# Altium integrated library Renesas Memory.IntLib: 284 symbols (part 8 of 9)
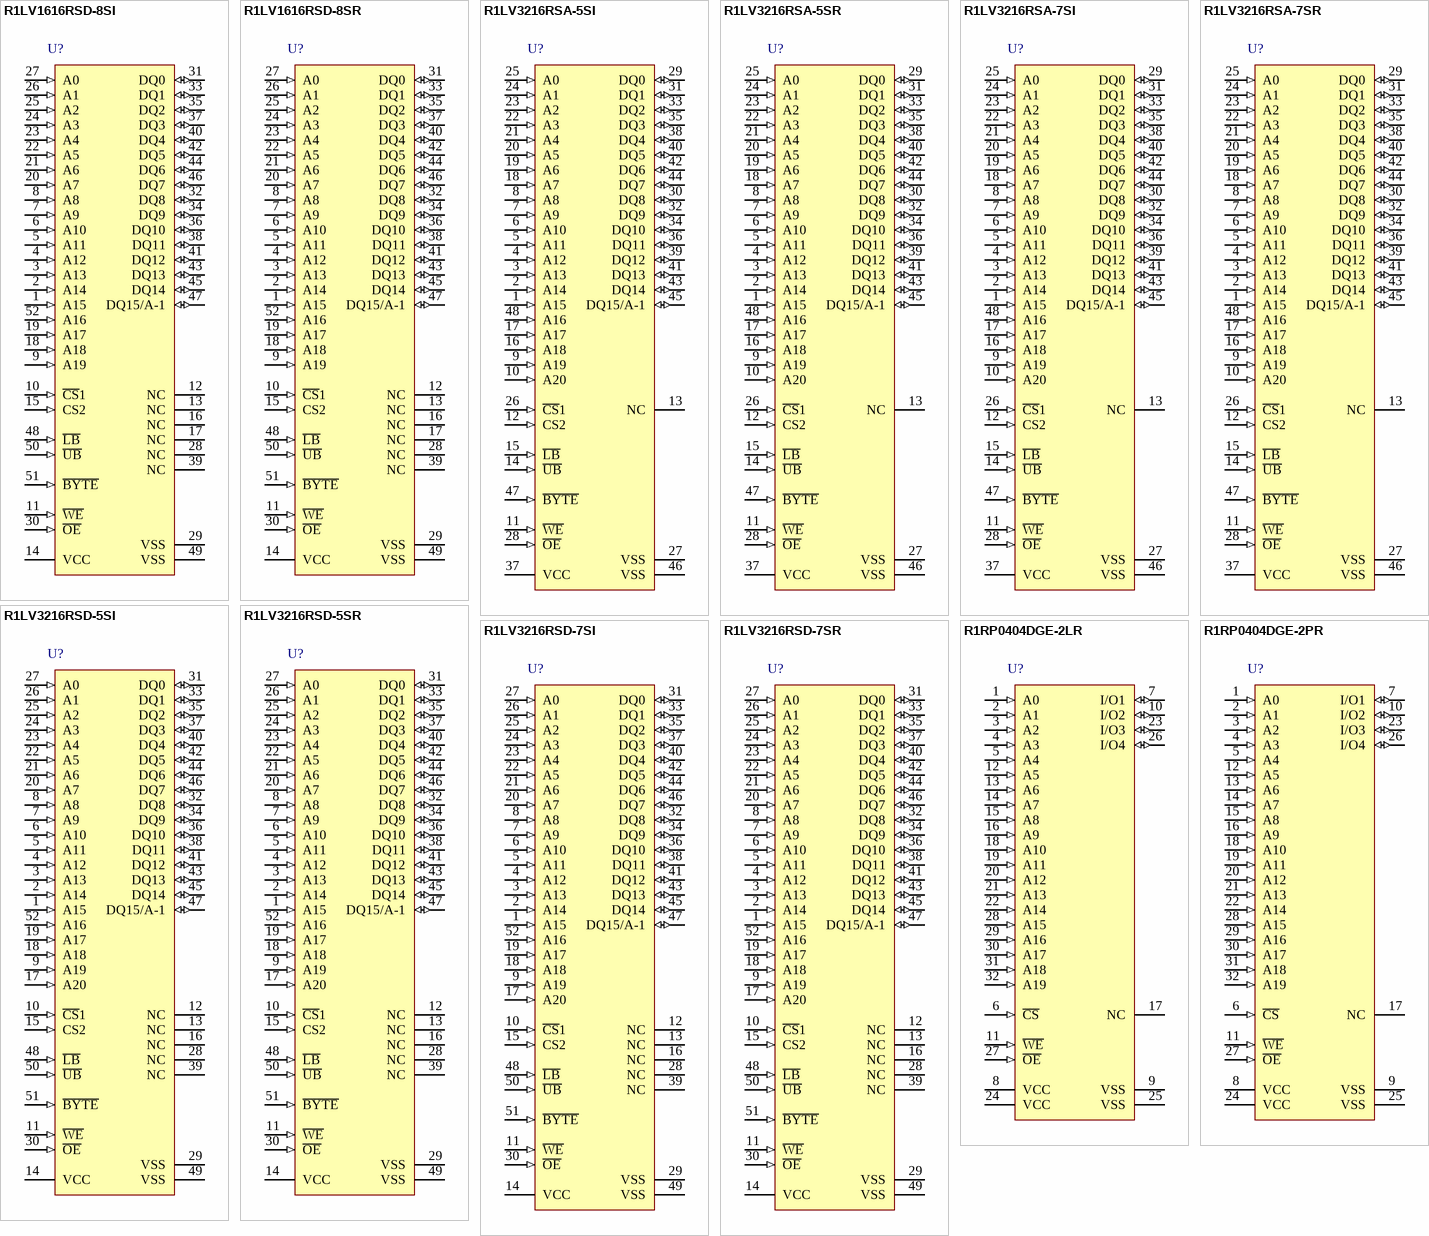
[diagram p22: symbols R1LV1616RSD-8SI to R1RP0404DGE-2PR]

## R1RP0404DGE-2PR
designator U?
R1RP0404D Series 4M High Speed SRAM (1-Mword × 4-bit); Published: 3-Mar-2010; DatasheetVersion: Rev.1.00, Mar-2004; PackageVersion: Sep-2005; PackageReference: PRSJ0032DA-A; Publisher: Altium Limited; PackageDescription: 32-Pin Small Outline J-Lead, 10.16 mm Body Width, 1.27 mm Pitch; Code_JEITA: P-SOJ32-10.16x20.85-1.27; ComponentLink1Description: Manufacturer Link; ComponentLink1URL: http://sg.renesas.com/products/memory/memory_category_landing.jsp; ComponentLink2Description: Datasheet; ComponentLink2URL: http://documentation.renesas.com/eng/products/memory/rej03c0116_r1rp0404d.pdf; ComponentLink3Description: Packaging Specification; ComponentLink3URL: http://sg.renesas.com/media/products/common_info/package/pdf/ic/code/prsj0032da_a.pdf
footprint PRSJ0032DA-A_N (SOJ, 32-Leads, Body 21 x 10.16 mm, Pitch 1.27mm, IPC Medium Density)
footprint PRSJ0032DA-A_L (SOJ, 32-Leads, Body 21 x 10.16 mm, Pitch 1.27mm, IPC High Density)
footprint PRSJ0032DA-A_M (SOJ, 32-Leads, Body 21 x 10.16 mm, Pitch 1.27mm, IPC Low Density)
pins: 1 A0 (in), 2 A1 (in), 3 A2 (in), 4 A3 (in), 5 A4 (in), 6 ~{CS} (in), 7 I/O1 (io), 8 VCC (power), 9 VSS (power), 10 I/O2 (io), 11 ~{WE} (in), 12 A5 (in), 13 A6 (in), 14 A7 (in), 15 A8 (in), 16 A9 (in), 17 NC, 18 A10 (in), 19 A11 (in), 20 A12 (in), 21 A13 (in), 22 A14 (in), 23 I/O3 (io), 24 VCC (power), 25 VSS (power), 26 I/O4 (io), 27 ~{OE} (in), 28 A15 (in), 29 A16 (in), 30 A17 (in), 31 A18 (in), 32 A19 (in)

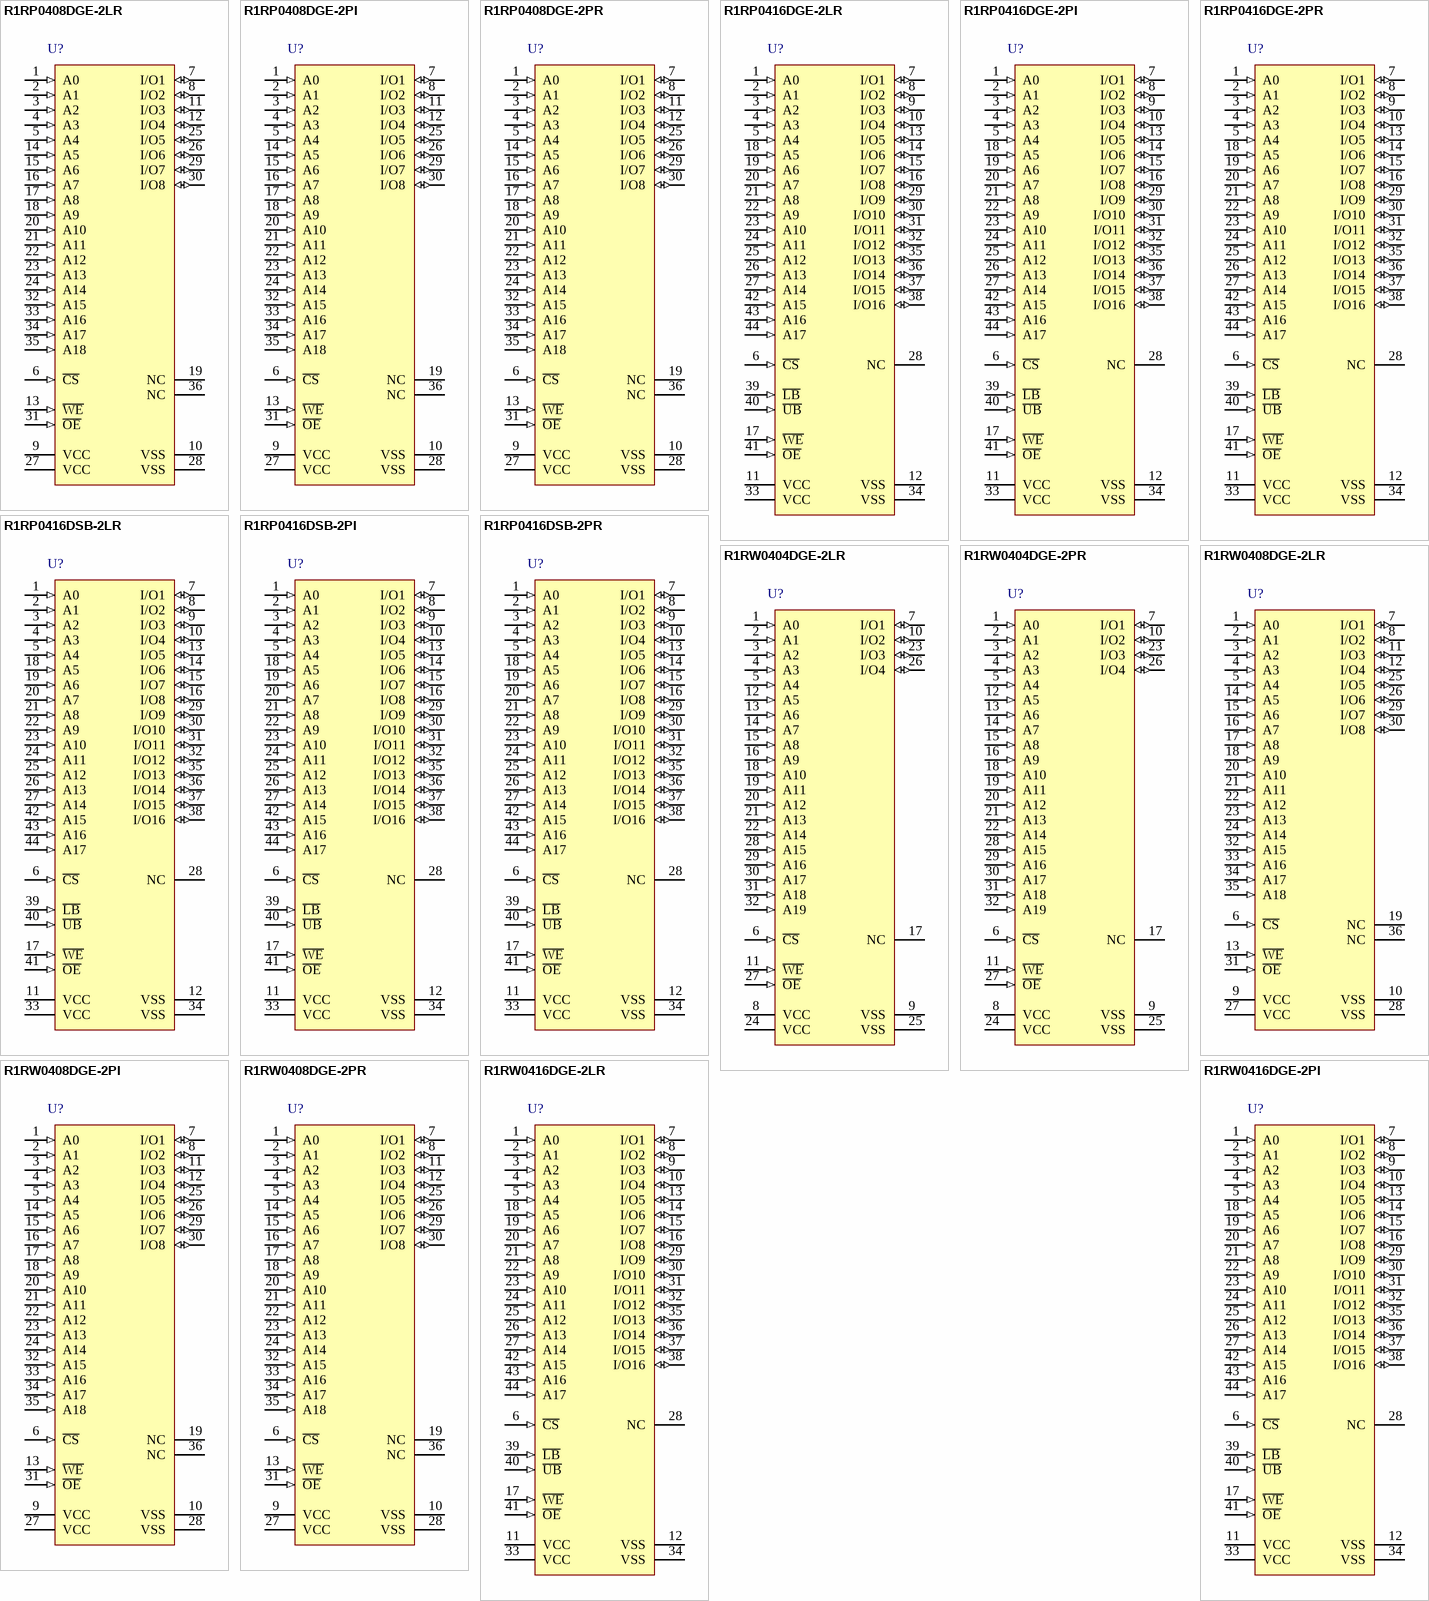
[diagram p13: symbols R1RP0408DGE-2LR to R1RW0416DGE-2PI]

## R1RP0408DGE-2LR
designator U?
R1RP0408D Series 4M High Speed SRAM (512-kword × 8-bit); Published: 3-Mar-2010; DatasheetVersion: Rev.2.00, Dec-2008; PackageVersion: Sep-2005; PackageReference: PRSJ0036DA-A; Publisher: Altium Limited; PackageDescription: 36-Pin Small Outline J-Lead, 10.16 mm Body Width, 1.27 mm Pitch; Code_JEITA: P-SOJ36-10.16x23.39-1.27; ComponentLink1Description: Manufacturer Link; ComponentLink1URL: http://sg.renesas.com/products/memory/memory_category_landing.jsp; ComponentLink2Description: Datasheet; ComponentLink2URL: http://documentation.renesas.com/eng/products/memory/rej03c0112_r1rp0408d.pdf; ComponentLink3Description: Packaging Specification; ComponentLink3URL: http://sg.renesas.com/media/products/common_info/package/pdf/ic/code/prsj0036da_a.pdf
footprint PRSJ0036DA-A_N (SOJ, 36-Leads, Body 23.5 x 10.16 mm, Pitch 1.27mm, IPC Medium Density)
footprint PRSJ0036DA-A_L (SOJ, 36-Leads, Body 23.5 x 10.16 mm, Pitch 1.27mm, IPC High Density)
footprint PRSJ0036DA-A_M (SOJ, 36-Leads, Body 23.5 x 10.16 mm, Pitch 1.27mm, IPC Low Density)
pins: 1 A0 (in), 2 A1 (in), 3 A2 (in), 4 A3 (in), 5 A4 (in), 6 ~{CS} (in), 7 I/O1 (io), 8 I/O2 (io), 9 VCC (power), 10 VSS (power), 11 I/O3 (io), 12 I/O4 (io), 13 ~{WE} (in), 14 A5 (in), 15 A6 (in), 16 A7 (in), 17 A8 (in), 18 A9 (in), 19 NC, 20 A10 (in), 21 A11 (in), 22 A12 (in), 23 A13 (in), 24 A14 (in), 25 I/O5 (io), 26 I/O6 (io), 27 VCC (power), 28 VSS (power), 29 I/O7 (io), 30 I/O8 (io), 31 ~{OE} (in), 32 A15 (in), 33 A16 (in), 34 A17 (in), 35 A18 (in), 36 NC

## R1RP0408DGE-2PI
designator U?
R1RP0408DI Series 4M High Speed SRAM (512-kword × 8-bit) Wide Temperature Range Version; Published: 3-Mar-2010; DatasheetVersion: Rev.1.00, Mar-2004; PackageVersion: Sep-2005; PackageReference: PRSJ0036DA-A; Publisher: Altium Limited; PackageDescription: 36-Pin Small Outline J-Lead, 10.16 mm Body Width, 1.27 mm Pitch; Code_JEITA: P-SOJ36-10.16x23.39-1.27; ComponentLink1Description: Manufacturer Link; ComponentLink1URL: http://sg.renesas.com/products/memory/memory_category_landing.jsp; ComponentLink2Description: Datasheet; ComponentLink2URL: http://documentation.renesas.com/eng/products/memory/rej03c0114_r1rp0408di.pdf; ComponentLink3Description: Packaging Specification; ComponentLink3URL: http://sg.renesas.com/media/products/common_info/package/pdf/ic/code/prsj0036da_a.pdf
footprint PRSJ0036DA-A_N (SOJ, 36-Leads, Body 23.5 x 10.16 mm, Pitch 1.27mm, IPC Medium Density)
footprint PRSJ0036DA-A_L (SOJ, 36-Leads, Body 23.5 x 10.16 mm, Pitch 1.27mm, IPC High Density)
footprint PRSJ0036DA-A_M (SOJ, 36-Leads, Body 23.5 x 10.16 mm, Pitch 1.27mm, IPC Low Density)
pins: 1 A0 (in), 2 A1 (in), 3 A2 (in), 4 A3 (in), 5 A4 (in), 6 ~{CS} (in), 7 I/O1 (io), 8 I/O2 (io), 9 VCC (power), 10 VSS (power), 11 I/O3 (io), 12 I/O4 (io), 13 ~{WE} (in), 14 A5 (in), 15 A6 (in), 16 A7 (in), 17 A8 (in), 18 A9 (in), 19 NC, 20 A10 (in), 21 A11 (in), 22 A12 (in), 23 A13 (in), 24 A14 (in), 25 I/O5 (io), 26 I/O6 (io), 27 VCC (power), 28 VSS (power), 29 I/O7 (io), 30 I/O8 (io), 31 ~{OE} (in), 32 A15 (in), 33 A16 (in), 34 A17 (in), 35 A18 (in), 36 NC

## R1RP0408DGE-2PR
designator U?
R1RP0408D Series 4M High Speed SRAM (512-kword × 8-bit); Published: 3-Mar-2010; DatasheetVersion: Rev.2.00, Dec-2008; PackageVersion: Sep-2005; PackageReference: PRSJ0036DA-A; Publisher: Altium Limited; PackageDescription: 36-Pin Small Outline J-Lead, 10.16 mm Body Width, 1.27 mm Pitch; Code_JEITA: P-SOJ36-10.16x23.39-1.27; ComponentLink1Description: Manufacturer Link; ComponentLink1URL: http://sg.renesas.com/products/memory/memory_category_landing.jsp; ComponentLink2Description: Datasheet; ComponentLink2URL: http://documentation.renesas.com/eng/products/memory/rej03c0112_r1rp0408d.pdf; ComponentLink3Description: Packaging Specification; ComponentLink3URL: http://sg.renesas.com/media/products/common_info/package/pdf/ic/code/prsj0036da_a.pdf
footprint PRSJ0036DA-A_N (SOJ, 36-Leads, Body 23.5 x 10.16 mm, Pitch 1.27mm, IPC Medium Density)
footprint PRSJ0036DA-A_L (SOJ, 36-Leads, Body 23.5 x 10.16 mm, Pitch 1.27mm, IPC High Density)
footprint PRSJ0036DA-A_M (SOJ, 36-Leads, Body 23.5 x 10.16 mm, Pitch 1.27mm, IPC Low Density)
pins: 1 A0 (in), 2 A1 (in), 3 A2 (in), 4 A3 (in), 5 A4 (in), 6 ~{CS} (in), 7 I/O1 (io), 8 I/O2 (io), 9 VCC (power), 10 VSS (power), 11 I/O3 (io), 12 I/O4 (io), 13 ~{WE} (in), 14 A5 (in), 15 A6 (in), 16 A7 (in), 17 A8 (in), 18 A9 (in), 19 NC, 20 A10 (in), 21 A11 (in), 22 A12 (in), 23 A13 (in), 24 A14 (in), 25 I/O5 (io), 26 I/O6 (io), 27 VCC (power), 28 VSS (power), 29 I/O7 (io), 30 I/O8 (io), 31 ~{OE} (in), 32 A15 (in), 33 A16 (in), 34 A17 (in), 35 A18 (in), 36 NC

## R1RP0416DGE-2LR
designator U?
R1RP0416D Series 4M High Speed SRAM (256-kword × 16-bit); Published: 3-Mar-2010; DatasheetVersion: Rev.1.00, Mar-2004; PackageVersion: Sep-2005; PackageReference: PRSJ0044DA-A; Publisher: Altium Limited; PackageDescription: 44-Pin Small Outline J-Lead, 10.16 mm Body Width, 1.27 mm Pitch; Code_JEITA: P-SOJ44-10.16x28.47-1.27; ComponentLink1Description: Manufacturer Link; ComponentLink1URL: http://sg.renesas.com/products/memory/memory_category_landing.jsp; ComponentLink2Description: Datasheet; ComponentLink2URL: http://documentation.renesas.com/eng/products/memory/rej03c0108_r1rp0416d.pdf; ComponentLink3Description: Packaging Specification; ComponentLink3URL: http://sg.renesas.com/media/products/common_info/package/pdf/ic/code/prsj0044da_a.pdf
footprint PRSJ0044DA-A_N (SOJ, 44-Leads, Body 28.6 x 10.16 mm, Pitch 1.27mm, IPC Medium Density)
footprint PRSJ0044DA-A_L (SOJ, 44-Leads, Body 28.6 x 10.16 mm, Pitch 1.27mm, IPC High Density)
footprint PRSJ0044DA-A_M (SOJ, 44-Leads, Body 28.6 x 10.16 mm, Pitch 1.27mm, IPC Low Density)
pins: 1 A0 (in), 2 A1 (in), 3 A2 (in), 4 A3 (in), 5 A4 (in), 6 ~{CS} (in), 7 I/O1 (io), 8 I/O2 (io), 9 I/O3 (io), 10 I/O4 (io), 11 VCC (power), 12 VSS (power), 13 I/O5 (io), 14 I/O6 (io), 15 I/O7 (io), 16 I/O8 (io), 17 ~{WE} (in), 18 A5 (in), 19 A6 (in), 20 A7 (in), 21 A8 (in), 22 A9 (in), 23 A10 (in), 24 A11 (in), 25 A12 (in), 26 A13 (in), 27 A14 (in), 28 NC, 29 I/O9 (io), 30 I/O10 (io), 31 I/O11 (io), 32 I/O12 (io), 33 VCC (power), 34 VSS (power), 35 I/O13 (io), 36 I/O14 (io), 37 I/O15 (io), 38 I/O16 (io), 39 ~{LB} (in), 40 ~{UB} (in), 41 ~{OE} (in), 42 A15 (in), 43 A16 (in), 44 A17 (in)

## R1RP0416DGE-2PI
designator U?
R1RP0416DI Series 4M High Speed SRAM (256-kword × 16-bit) Wide Temperature Range Version; Published: 3-Mar-2010; DatasheetVersion: Rev.1.00, Mar-2004; PackageVersion: Sep-2005; PackageReference: PRSJ0044DA-A; Publisher: Altium Limited; PackageDescription: 44-Pin Small Outline J-Lead, 10.16 mm Body Width, 1.27 mm Pitch; Code_JEITA: P-SOJ44-10.16x28.47-1.27; ComponentLink1Description: Manufacturer Link; ComponentLink1URL: http://sg.renesas.com/products/memory/memory_category_landing.jsp; ComponentLink2Description: Datasheet; ComponentLink2URL: http://documentation.renesas.com/eng/products/memory/rej03c0110_r1rp0416di.pdf; ComponentLink3Description: Packaging Specification; ComponentLink3URL: http://sg.renesas.com/media/products/common_info/package/pdf/ic/code/prsj0044da_a.pdf
footprint PRSJ0044DA-A_N (SOJ, 44-Leads, Body 28.6 x 10.16 mm, Pitch 1.27mm, IPC Medium Density)
footprint PRSJ0044DA-A_L (SOJ, 44-Leads, Body 28.6 x 10.16 mm, Pitch 1.27mm, IPC High Density)
footprint PRSJ0044DA-A_M (SOJ, 44-Leads, Body 28.6 x 10.16 mm, Pitch 1.27mm, IPC Low Density)
pins: 1 A0 (in), 2 A1 (in), 3 A2 (in), 4 A3 (in), 5 A4 (in), 6 ~{CS} (in), 7 I/O1 (io), 8 I/O2 (io), 9 I/O3 (io), 10 I/O4 (io), 11 VCC (power), 12 VSS (power), 13 I/O5 (io), 14 I/O6 (io), 15 I/O7 (io), 16 I/O8 (io), 17 ~{WE} (in), 18 A5 (in), 19 A6 (in), 20 A7 (in), 21 A8 (in), 22 A9 (in), 23 A10 (in), 24 A11 (in), 25 A12 (in), 26 A13 (in), 27 A14 (in), 28 NC, 29 I/O9 (io), 30 I/O10 (io), 31 I/O11 (io), 32 I/O12 (io), 33 VCC (power), 34 VSS (power), 35 I/O13 (io), 36 I/O14 (io), 37 I/O15 (io), 38 I/O16 (io), 39 ~{LB} (in), 40 ~{UB} (in), 41 ~{OE} (in), 42 A15 (in), 43 A16 (in), 44 A17 (in)

## R1RP0416DGE-2PR
designator U?
R1RP0416D Series 4M High Speed SRAM (256-kword × 16-bit); Published: 3-Mar-2010; DatasheetVersion: Rev.1.00, Mar-2004; PackageVersion: Sep-2005; PackageReference: PRSJ0044DA-A; Publisher: Altium Limited; PackageDescription: 44-Pin Small Outline J-Lead, 10.16 mm Body Width, 1.27 mm Pitch; Code_JEITA: P-SOJ44-10.16x28.47-1.27; ComponentLink1Description: Manufacturer Link; ComponentLink1URL: http://sg.renesas.com/products/memory/memory_category_landing.jsp; ComponentLink2Description: Datasheet; ComponentLink2URL: http://documentation.renesas.com/eng/products/memory/rej03c0108_r1rp0416d.pdf; ComponentLink3Description: Packaging Specification; ComponentLink3URL: http://sg.renesas.com/media/products/common_info/package/pdf/ic/code/prsj0044da_a.pdf
footprint PRSJ0044DA-A_N (SOJ, 44-Leads, Body 28.6 x 10.16 mm, Pitch 1.27mm, IPC Medium Density)
footprint PRSJ0044DA-A_L (SOJ, 44-Leads, Body 28.6 x 10.16 mm, Pitch 1.27mm, IPC High Density)
footprint PRSJ0044DA-A_M (SOJ, 44-Leads, Body 28.6 x 10.16 mm, Pitch 1.27mm, IPC Low Density)
pins: 1 A0 (in), 2 A1 (in), 3 A2 (in), 4 A3 (in), 5 A4 (in), 6 ~{CS} (in), 7 I/O1 (io), 8 I/O2 (io), 9 I/O3 (io), 10 I/O4 (io), 11 VCC (power), 12 VSS (power), 13 I/O5 (io), 14 I/O6 (io), 15 I/O7 (io), 16 I/O8 (io), 17 ~{WE} (in), 18 A5 (in), 19 A6 (in), 20 A7 (in), 21 A8 (in), 22 A9 (in), 23 A10 (in), 24 A11 (in), 25 A12 (in), 26 A13 (in), 27 A14 (in), 28 NC, 29 I/O9 (io), 30 I/O10 (io), 31 I/O11 (io), 32 I/O12 (io), 33 VCC (power), 34 VSS (power), 35 I/O13 (io), 36 I/O14 (io), 37 I/O15 (io), 38 I/O16 (io), 39 ~{LB} (in), 40 ~{UB} (in), 41 ~{OE} (in), 42 A15 (in), 43 A16 (in), 44 A17 (in)

## R1RP0416DSB-2LR
designator U?
R1RP0416D Series 4M High Speed SRAM (256-kword × 16-bit); Published: 3-Mar-2010; DatasheetVersion: Rev.1.00, Mar-2004; PackageVersion: Sep-2005; PackageReference: PTSB0044GA-A; Publisher: Altium Limited; PackageDescription: 44-Pin Plastic Small Outline Package 0.8 mm Pitch; Code_JEITA: P-TSOP(2)44-10.16x18.41-0.80; ComponentLink1Description: Manufacturer Link; ComponentLink1URL: http://sg.renesas.com/products/memory/memory_category_landing.jsp; ComponentLink2Description: Datasheet; ComponentLink2URL: http://documentation.renesas.com/eng/products/memory/rej03c0108_r1rp0416d.pdf; ComponentLink3Description: Packaging Specification; ComponentLink3URL: http://sg.renesas.com/media/products/common_info/package/pdf/ic/code/ptsb0044ga_a.pdf
footprint PTSB0044GA-A_N (SOP, 44-Leads, Body 18.4x10.16mm, Pitch 0.8mm, IPC Medium Density)
footprint PTSB0044GA-A_L (SOP, 44-Leads, Body 18.4x10.16mm, Pitch 0.8mm, IPC High Density)
footprint PTSB0044GA-A_M (SOP, 44-Leads, Body 18.4x10.16mm, Pitch 0.8mm, IPC Low Density)
pins: 1 A0 (in), 2 A1 (in), 3 A2 (in), 4 A3 (in), 5 A4 (in), 6 ~{CS} (in), 7 I/O1 (io), 8 I/O2 (io), 9 I/O3 (io), 10 I/O4 (io), 11 VCC (power), 12 VSS (power), 13 I/O5 (io), 14 I/O6 (io), 15 I/O7 (io), 16 I/O8 (io), 17 ~{WE} (in), 18 A5 (in), 19 A6 (in), 20 A7 (in), 21 A8 (in), 22 A9 (in), 23 A10 (in), 24 A11 (in), 25 A12 (in), 26 A13 (in), 27 A14 (in), 28 NC, 29 I/O9 (io), 30 I/O10 (io), 31 I/O11 (io), 32 I/O12 (io), 33 VCC (power), 34 VSS (power), 35 I/O13 (io), 36 I/O14 (io), 37 I/O15 (io), 38 I/O16 (io), 39 ~{LB} (in), 40 ~{UB} (in), 41 ~{OE} (in), 42 A15 (in), 43 A16 (in), 44 A17 (in)

## R1RP0416DSB-2PI
designator U?
R1RP0416DI Series 4M High Speed SRAM (256-kword × 16-bit) Wide Temperature Range Version; Published: 3-Mar-2010; DatasheetVersion: Rev.1.00, Mar-2004; PackageVersion: Sep-2005; PackageReference: PTSB0044GA-A; Publisher: Altium Limited; PackageDescription: 44-Pin Plastic Small Outline Package 0.8 mm Pitch; Code_JEITA: P-TSOP(2)44-10.16x18.41-0.80; ComponentLink1Description: Manufacturer Link; ComponentLink1URL: http://sg.renesas.com/products/memory/memory_category_landing.jsp; ComponentLink2Description: Datasheet; ComponentLink2URL: http://documentation.renesas.com/eng/products/memory/rej03c0110_r1rp0416di.pdf; ComponentLink3Description: Packaging Specification; ComponentLink3URL: http://sg.renesas.com/media/products/common_info/package/pdf/ic/code/ptsb0044ga_a.pdf
footprint PTSB0044GA-A_N (SOP, 44-Leads, Body 18.4x10.16mm, Pitch 0.8mm, IPC Medium Density)
footprint PTSB0044GA-A_L (SOP, 44-Leads, Body 18.4x10.16mm, Pitch 0.8mm, IPC High Density)
footprint PTSB0044GA-A_M (SOP, 44-Leads, Body 18.4x10.16mm, Pitch 0.8mm, IPC Low Density)
pins: 1 A0 (in), 2 A1 (in), 3 A2 (in), 4 A3 (in), 5 A4 (in), 6 ~{CS} (in), 7 I/O1 (io), 8 I/O2 (io), 9 I/O3 (io), 10 I/O4 (io), 11 VCC (power), 12 VSS (power), 13 I/O5 (io), 14 I/O6 (io), 15 I/O7 (io), 16 I/O8 (io), 17 ~{WE} (in), 18 A5 (in), 19 A6 (in), 20 A7 (in), 21 A8 (in), 22 A9 (in), 23 A10 (in), 24 A11 (in), 25 A12 (in), 26 A13 (in), 27 A14 (in), 28 NC, 29 I/O9 (io), 30 I/O10 (io), 31 I/O11 (io), 32 I/O12 (io), 33 VCC (power), 34 VSS (power), 35 I/O13 (io), 36 I/O14 (io), 37 I/O15 (io), 38 I/O16 (io), 39 ~{LB} (in), 40 ~{UB} (in), 41 ~{OE} (in), 42 A15 (in), 43 A16 (in), 44 A17 (in)

## R1RP0416DSB-2PR
designator U?
R1RP0416D Series 4M High Speed SRAM (256-kword × 16-bit); Published: 3-Mar-2010; DatasheetVersion: Rev.1.00, Mar-2004; PackageVersion: Sep-2005; PackageReference: PTSB0044GA-A; Publisher: Altium Limited; PackageDescription: 44-Pin Plastic Small Outline Package 0.8 mm Pitch; Code_JEITA: P-TSOP(2)44-10.16x18.41-0.80; ComponentLink1Description: Manufacturer Link; ComponentLink1URL: http://sg.renesas.com/products/memory/memory_category_landing.jsp; ComponentLink2Description: Datasheet; ComponentLink2URL: http://documentation.renesas.com/eng/products/memory/rej03c0108_r1rp0416d.pdf; ComponentLink3Description: Packaging Specification; ComponentLink3URL: http://sg.renesas.com/media/products/common_info/package/pdf/ic/code/ptsb0044ga_a.pdf
footprint PTSB0044GA-A_N (SOP, 44-Leads, Body 18.4x10.16mm, Pitch 0.8mm, IPC Medium Density)
footprint PTSB0044GA-A_L (SOP, 44-Leads, Body 18.4x10.16mm, Pitch 0.8mm, IPC High Density)
footprint PTSB0044GA-A_M (SOP, 44-Leads, Body 18.4x10.16mm, Pitch 0.8mm, IPC Low Density)
pins: 1 A0 (in), 2 A1 (in), 3 A2 (in), 4 A3 (in), 5 A4 (in), 6 ~{CS} (in), 7 I/O1 (io), 8 I/O2 (io), 9 I/O3 (io), 10 I/O4 (io), 11 VCC (power), 12 VSS (power), 13 I/O5 (io), 14 I/O6 (io), 15 I/O7 (io), 16 I/O8 (io), 17 ~{WE} (in), 18 A5 (in), 19 A6 (in), 20 A7 (in), 21 A8 (in), 22 A9 (in), 23 A10 (in), 24 A11 (in), 25 A12 (in), 26 A13 (in), 27 A14 (in), 28 NC, 29 I/O9 (io), 30 I/O10 (io), 31 I/O11 (io), 32 I/O12 (io), 33 VCC (power), 34 VSS (power), 35 I/O13 (io), 36 I/O14 (io), 37 I/O15 (io), 38 I/O16 (io), 39 ~{LB} (in), 40 ~{UB} (in), 41 ~{OE} (in), 42 A15 (in), 43 A16 (in), 44 A17 (in)

## R1RW0404DGE-2LR
designator U?
R1RW0404D Series 4M High Speed SRAM (1-Mword × 4-bit); Published: 3-Mar-2010; DatasheetVersion: Rev.1.00, Mar-2004; PackageVersion: Sep-2005; PackageReference: PRSJ0032DA-A; Publisher: Altium Limited; PackageDescription: 32-Pin Small Outline J-Lead, 10.16 mm Body Width, 1.27 mm Pitch; Code_JEITA: P-SOJ32-10.16x20.85-1.27; ComponentLink1Description: Manufacturer Link; ComponentLink1URL: http://sg.renesas.com/products/memory/memory_category_landing.jsp; ComponentLink2Description: Datasheet; ComponentLink2URL: http://documentation.renesas.com/eng/products/memory/rej03c0115_r1rw0404d.pdf; ComponentLink3Description: Packaging Specification; ComponentLink3URL: http://sg.renesas.com/media/products/common_info/package/pdf/ic/code/prsj0032da_a.pdf
footprint PRSJ0032DA-A_N (SOJ, 32-Leads, Body 21 x 10.16 mm, Pitch 1.27mm, IPC Medium Density)
footprint PRSJ0032DA-A_L (SOJ, 32-Leads, Body 21 x 10.16 mm, Pitch 1.27mm, IPC High Density)
footprint PRSJ0032DA-A_M (SOJ, 32-Leads, Body 21 x 10.16 mm, Pitch 1.27mm, IPC Low Density)
pins: 1 A0 (in), 2 A1 (in), 3 A2 (in), 4 A3 (in), 5 A4 (in), 6 ~{CS} (in), 7 I/O1 (io), 8 VCC (power), 9 VSS (power), 10 I/O2 (io), 11 ~{WE} (in), 12 A5 (in), 13 A6 (in), 14 A7 (in), 15 A8 (in), 16 A9 (in), 17 NC, 18 A10 (in), 19 A11 (in), 20 A12 (in), 21 A13 (in), 22 A14 (in), 23 I/O3 (io), 24 VCC (power), 25 VSS (power), 26 I/O4 (io), 27 ~{OE} (in), 28 A15 (in), 29 A16 (in), 30 A17 (in), 31 A18 (in), 32 A19 (in)

## R1RW0404DGE-2PR
designator U?
R1RW0404D Series 4M High Speed SRAM (1-Mword × 4-bit); Published: 3-Mar-2010; DatasheetVersion: Rev.1.00, Mar-2004; PackageVersion: Sep-2005; PackageReference: PRSJ0032DA-A; Publisher: Altium Limited; PackageDescription: 32-Pin Small Outline J-Lead, 10.16 mm Body Width, 1.27 mm Pitch; Code_JEITA: P-SOJ32-10.16x20.85-1.27; ComponentLink1Description: Manufacturer Link; ComponentLink1URL: http://sg.renesas.com/products/memory/memory_category_landing.jsp; ComponentLink2Description: Datasheet; ComponentLink2URL: http://documentation.renesas.com/eng/products/memory/rej03c0115_r1rw0404d.pdf; ComponentLink3Description: Packaging Specification; ComponentLink3URL: http://sg.renesas.com/media/products/common_info/package/pdf/ic/code/prsj0032da_a.pdf
footprint PRSJ0032DA-A_N (SOJ, 32-Leads, Body 21 x 10.16 mm, Pitch 1.27mm, IPC Medium Density)
footprint PRSJ0032DA-A_L (SOJ, 32-Leads, Body 21 x 10.16 mm, Pitch 1.27mm, IPC High Density)
footprint PRSJ0032DA-A_M (SOJ, 32-Leads, Body 21 x 10.16 mm, Pitch 1.27mm, IPC Low Density)
pins: 1 A0 (in), 2 A1 (in), 3 A2 (in), 4 A3 (in), 5 A4 (in), 6 ~{CS} (in), 7 I/O1 (io), 8 VCC (power), 9 VSS (power), 10 I/O2 (io), 11 ~{WE} (in), 12 A5 (in), 13 A6 (in), 14 A7 (in), 15 A8 (in), 16 A9 (in), 17 NC, 18 A10 (in), 19 A11 (in), 20 A12 (in), 21 A13 (in), 22 A14 (in), 23 I/O3 (io), 24 VCC (power), 25 VSS (power), 26 I/O4 (io), 27 ~{OE} (in), 28 A15 (in), 29 A16 (in), 30 A17 (in), 31 A18 (in), 32 A19 (in)

## R1RW0408DGE-2LR
designator U?
R1RW0408D Series 4M High Speed SRAM (512-kword × 8-bit); Published: 3-Mar-2010; DatasheetVersion: Rev.2.00, Dec-2008; PackageVersion: Sep-2005; PackageReference: PRSJ0036DA-A; Publisher: Altium Limited; PackageDescription: 36-Pin Small Outline J-Lead, 10.16 mm Body Width, 1.27 mm Pitch; Code_JEITA: P-SOJ36-10.16x23.39-1.27; ComponentLink1Description: Manufacturer Link; ComponentLink1URL: http://sg.renesas.com/products/memory/memory_category_landing.jsp; ComponentLink2Description: Datasheet; ComponentLink2URL: http://documentation.renesas.com/eng/products/memory/rej03c0111_r1rw0408d.pdf; ComponentLink3Description: Packaging Specification; ComponentLink3URL: http://sg.renesas.com/media/products/common_info/package/pdf/ic/code/prsj0036da_a.pdf
footprint PRSJ0036DA-A_N (SOJ, 36-Leads, Body 23.5 x 10.16 mm, Pitch 1.27mm, IPC Medium Density)
footprint PRSJ0036DA-A_L (SOJ, 36-Leads, Body 23.5 x 10.16 mm, Pitch 1.27mm, IPC High Density)
footprint PRSJ0036DA-A_M (SOJ, 36-Leads, Body 23.5 x 10.16 mm, Pitch 1.27mm, IPC Low Density)
pins: 1 A0 (in), 2 A1 (in), 3 A2 (in), 4 A3 (in), 5 A4 (in), 6 ~{CS} (in), 7 I/O1 (io), 8 I/O2 (io), 9 VCC (power), 10 VSS (power), 11 I/O3 (io), 12 I/O4 (io), 13 ~{WE} (in), 14 A5 (in), 15 A6 (in), 16 A7 (in), 17 A8 (in), 18 A9 (in), 19 NC, 20 A10 (in), 21 A11 (in), 22 A12 (in), 23 A13 (in), 24 A14 (in), 25 I/O5 (io), 26 I/O6 (io), 27 VCC (power), 28 VSS (power), 29 I/O7 (io), 30 I/O8 (io), 31 ~{OE} (in), 32 A15 (in), 33 A16 (in), 34 A17 (in), 35 A18 (in), 36 NC

## R1RW0408DGE-2PI
designator U?
R1RW0408DI Series 4M High Speed SRAM (512-kword × 8-bit) Wide Temperature Range Version; Published: 3-Mar-2010; DatasheetVersion: Rev.1.00, Mar-2004; PackageVersion: Sep-2005; PackageReference: PRSJ0036DA-A; Publisher: Altium Limited; PackageDescription: 36-Pin Small Outline J-Lead, 10.16 mm Body Width, 1.27 mm Pitch; Code_JEITA: P-SOJ36-10.16x23.39-1.27; ComponentLink1Description: Manufacturer Link; ComponentLink1URL: http://sg.renesas.com/products/memory/memory_category_landing.jsp; ComponentLink2Description: Datasheet; ComponentLink2URL: http://documentation.renesas.com/eng/products/memory/rej03c0113_r1rw0408di.pdf; ComponentLink3Description: Packaging Specification; ComponentLink3URL: http://sg.renesas.com/media/products/common_info/package/pdf/ic/code/prsj0036da_a.pdf
footprint PRSJ0036DA-A_N (SOJ, 36-Leads, Body 23.5 x 10.16 mm, Pitch 1.27mm, IPC Medium Density)
footprint PRSJ0036DA-A_L (SOJ, 36-Leads, Body 23.5 x 10.16 mm, Pitch 1.27mm, IPC High Density)
footprint PRSJ0036DA-A_M (SOJ, 36-Leads, Body 23.5 x 10.16 mm, Pitch 1.27mm, IPC Low Density)
pins: 1 A0 (in), 2 A1 (in), 3 A2 (in), 4 A3 (in), 5 A4 (in), 6 ~{CS} (in), 7 I/O1 (io), 8 I/O2 (io), 9 VCC (power), 10 VSS (power), 11 I/O3 (io), 12 I/O4 (io), 13 ~{WE} (in), 14 A5 (in), 15 A6 (in), 16 A7 (in), 17 A8 (in), 18 A9 (in), 19 NC, 20 A10 (in), 21 A11 (in), 22 A12 (in), 23 A13 (in), 24 A14 (in), 25 I/O5 (io), 26 I/O6 (io), 27 VCC (power), 28 VSS (power), 29 I/O7 (io), 30 I/O8 (io), 31 ~{OE} (in), 32 A15 (in), 33 A16 (in), 34 A17 (in), 35 A18 (in), 36 NC

## R1RW0408DGE-2PR
designator U?
R1RP0416D Series 4M High Speed SRAM (256-kword × 16-bit); Published: 3-Mar-2010; DatasheetVersion: Rev.2.00, Dec-2008; PackageVersion: Sep-2005; PackageReference: PRSJ0036DA-A; Publisher: Altium Limited; PackageDescription: 36-Pin Small Outline J-Lead, 10.16 mm Body Width, 1.27 mm Pitch; Code_JEITA: P-SOJ36-10.16x23.39-1.27; ComponentLink1Description: Manufacturer Link; ComponentLink1URL: http://sg.renesas.com/products/memory/memory_category_landing.jsp; ComponentLink2Description: Datasheet; ComponentLink2URL: http://documentation.renesas.com/eng/products/memory/rej03c0108_r1rp0416d.pdf; ComponentLink3Description: Packaging Specification; ComponentLink3URL: http://sg.renesas.com/media/products/common_info/package/pdf/ic/code/prsj0036da_a.pdf
footprint PRSJ0036DA-A_N (SOJ, 36-Leads, Body 23.5 x 10.16 mm, Pitch 1.27mm, IPC Medium Density)
footprint PRSJ0036DA-A_L (SOJ, 36-Leads, Body 23.5 x 10.16 mm, Pitch 1.27mm, IPC High Density)
footprint PRSJ0036DA-A_M (SOJ, 36-Leads, Body 23.5 x 10.16 mm, Pitch 1.27mm, IPC Low Density)
pins: 1 A0 (in), 2 A1 (in), 3 A2 (in), 4 A3 (in), 5 A4 (in), 6 ~{CS} (in), 7 I/O1 (io), 8 I/O2 (io), 9 VCC (power), 10 VSS (power), 11 I/O3 (io), 12 I/O4 (io), 13 ~{WE} (in), 14 A5 (in), 15 A6 (in), 16 A7 (in), 17 A8 (in), 18 A9 (in), 19 NC, 20 A10 (in), 21 A11 (in), 22 A12 (in), 23 A13 (in), 24 A14 (in), 25 I/O5 (io), 26 I/O6 (io), 27 VCC (power), 28 VSS (power), 29 I/O7 (io), 30 I/O8 (io), 31 ~{OE} (in), 32 A15 (in), 33 A16 (in), 34 A17 (in), 35 A18 (in), 36 NC

## R1RW0416DGE-2LR
designator U?
R1RW0416D Series 4M High Speed SRAM (256-kword × 16-bit); Published: 3-Mar-2010; DatasheetVersion: Rev.2.00, Dec-2008; PackageVersion: Sep-2005; PackageReference: PRSJ0044DA-A; Publisher: Altium Limited; PackageDescription: 44-Pin Small Outline J-Lead, 10.16 mm Body Width, 1.27 mm Pitch; Code_JEITA: P-SOJ44-10.16x28.47-1.27; ComponentLink1Description: Manufacturer Link; ComponentLink1URL: http://sg.renesas.com/products/memory/memory_category_landing.jsp; ComponentLink2Description: Datasheet; ComponentLink2URL: http://documentation.renesas.com/eng/products/memory/rej03c0107_r1rw0416d.pdf; ComponentLink3Description: Packaging Specification; ComponentLink3URL: http://sg.renesas.com/media/products/common_info/package/pdf/ic/code/prsj0044da_a.pdf
footprint PRSJ0044DA-A_N (SOJ, 44-Leads, Body 28.6 x 10.16 mm, Pitch 1.27mm, IPC Medium Density)
footprint PRSJ0044DA-A_L (SOJ, 44-Leads, Body 28.6 x 10.16 mm, Pitch 1.27mm, IPC High Density)
footprint PRSJ0044DA-A_M (SOJ, 44-Leads, Body 28.6 x 10.16 mm, Pitch 1.27mm, IPC Low Density)
pins: 1 A0 (in), 2 A1 (in), 3 A2 (in), 4 A3 (in), 5 A4 (in), 6 ~{CS} (in), 7 I/O1 (io), 8 I/O2 (io), 9 I/O3 (io), 10 I/O4 (io), 11 VCC (power), 12 VSS (power), 13 I/O5 (io), 14 I/O6 (io), 15 I/O7 (io), 16 I/O8 (io), 17 ~{WE} (in), 18 A5 (in), 19 A6 (in), 20 A7 (in), 21 A8 (in), 22 A9 (in), 23 A10 (in), 24 A11 (in), 25 A12 (in), 26 A13 (in), 27 A14 (in), 28 NC, 29 I/O9 (io), 30 I/O10 (io), 31 I/O11 (io), 32 I/O12 (io), 33 VCC (power), 34 VSS (power), 35 I/O13 (io), 36 I/O14 (io), 37 I/O15 (io), 38 I/O16 (io), 39 ~{LB} (in), 40 ~{UB} (in), 41 ~{OE} (in), 42 A15 (in), 43 A16 (in), 44 A17 (in)

## R1RW0416DGE-2PI
designator U?
R1RW0416D Series 4M High Speed SRAM (256-kword × 16-bit); Published: 3-Mar-2010; DatasheetVersion: Rev.2.00, Dec-2008; PackageVersion: Sep-2005; PackageReference: PRSJ0044DA-A; Publisher: Altium Limited; PackageDescription: 44-Pin Small Outline J-Lead, 10.16 mm Body Width, 1.27 mm Pitch; Code_JEITA: P-SOJ44-10.16x28.47-1.27; ComponentLink1Description: Manufacturer Link; ComponentLink1URL: http://sg.renesas.com/products/memory/memory_category_landing.jsp; ComponentLink2Description: Datasheet; ComponentLink2URL: http://documentation.renesas.com/eng/products/memory/rej03c0107_r1rw0416d.pdf; ComponentLink3Description: Packaging Specification; ComponentLink3URL: http://sg.renesas.com/media/products/common_info/package/pdf/ic/code/prsj0044da_a.pdf
footprint PRSJ0044DA-A_N (SOJ, 44-Leads, Body 28.6 x 10.16 mm, Pitch 1.27mm, IPC Medium Density)
footprint PRSJ0044DA-A_L (SOJ, 44-Leads, Body 28.6 x 10.16 mm, Pitch 1.27mm, IPC High Density)
footprint PRSJ0044DA-A_M (SOJ, 44-Leads, Body 28.6 x 10.16 mm, Pitch 1.27mm, IPC Low Density)
pins: 1 A0 (in), 2 A1 (in), 3 A2 (in), 4 A3 (in), 5 A4 (in), 6 ~{CS} (in), 7 I/O1 (io), 8 I/O2 (io), 9 I/O3 (io), 10 I/O4 (io), 11 VCC (power), 12 VSS (power), 13 I/O5 (io), 14 I/O6 (io), 15 I/O7 (io), 16 I/O8 (io), 17 ~{WE} (in), 18 A5 (in), 19 A6 (in), 20 A7 (in), 21 A8 (in), 22 A9 (in), 23 A10 (in), 24 A11 (in), 25 A12 (in), 26 A13 (in), 27 A14 (in), 28 NC, 29 I/O9 (io), 30 I/O10 (io), 31 I/O11 (io), 32 I/O12 (io), 33 VCC (power), 34 VSS (power), 35 I/O13 (io), 36 I/O14 (io), 37 I/O15 (io), 38 I/O16 (io), 39 ~{LB} (in), 40 ~{UB} (in), 41 ~{OE} (in), 42 A15 (in), 43 A16 (in), 44 A17 (in)

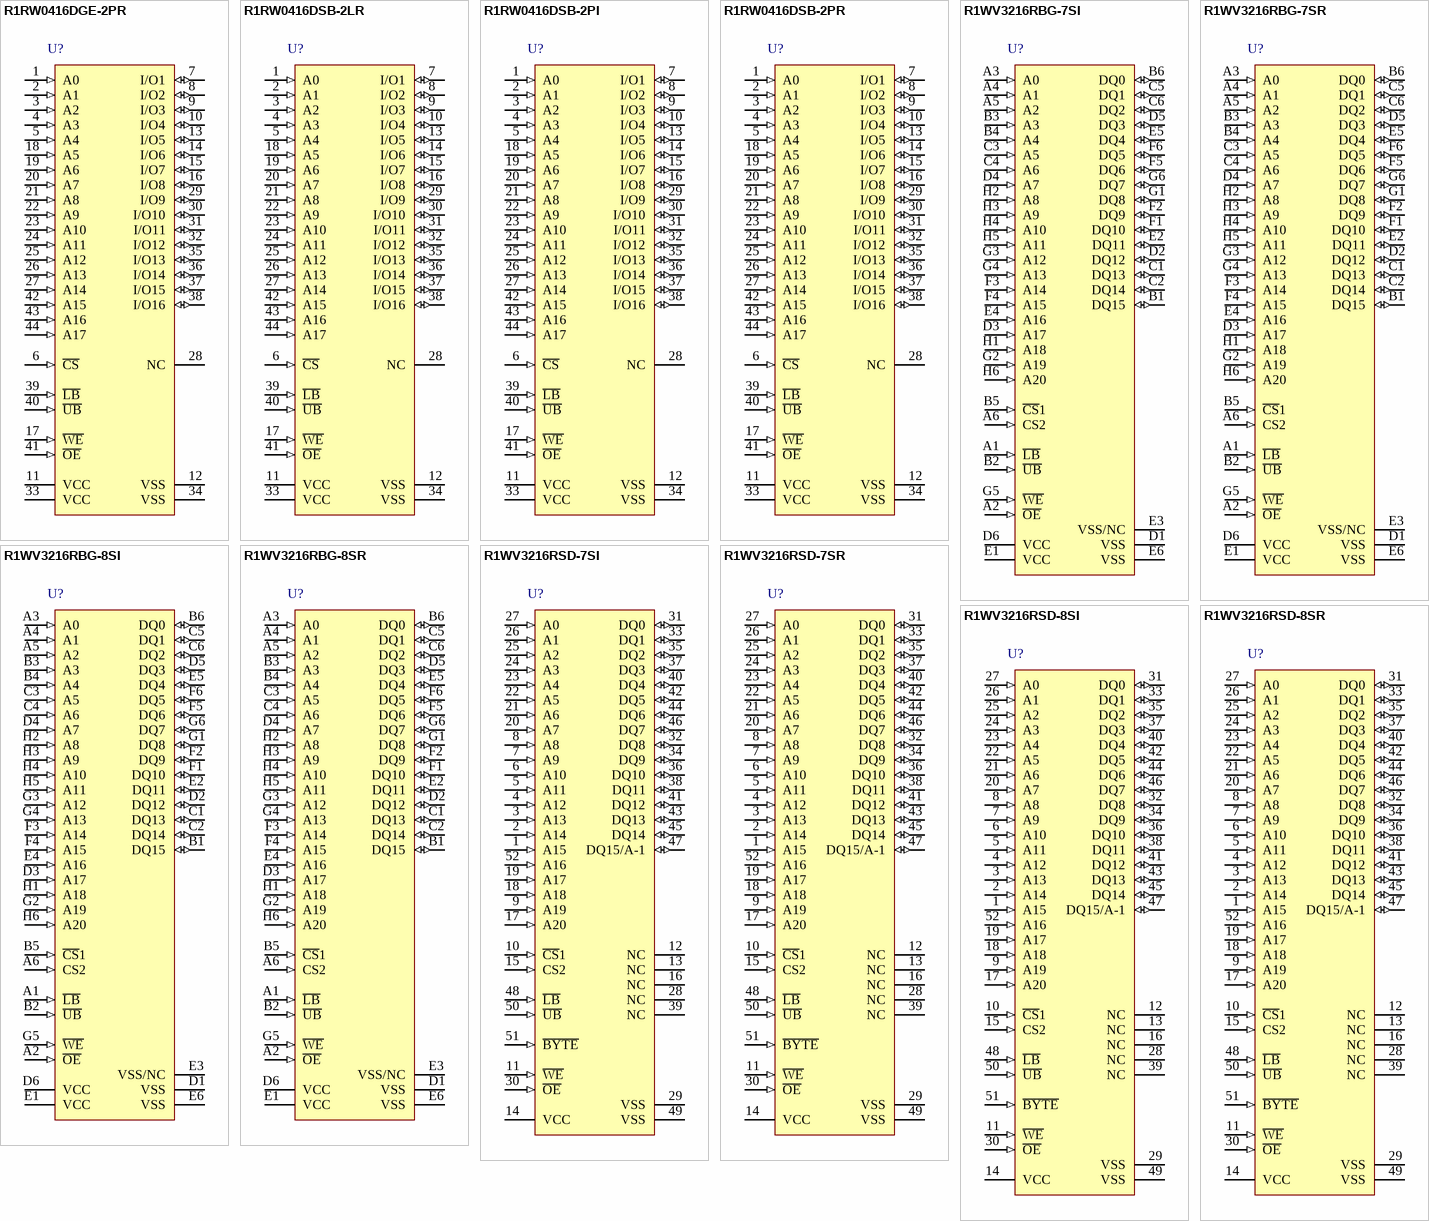
[diagram p14: symbols R1RW0416DGE-2PR to R1WV3216RSD-8SR]

## R1RW0416DGE-2PR
designator U?
R1RW0416D Series 4M High Speed SRAM (256-kword × 16-bit); Published: 3-Mar-2010; DatasheetVersion: Rev.2.00, Dec-2008; PackageVersion: Sep-2005; PackageReference: PRSJ0044DA-A; Publisher: Altium Limited; PackageDescription: 44-Pin Small Outline J-Lead, 10.16 mm Body Width, 1.27 mm Pitch; Code_JEITA: P-SOJ44-10.16x28.47-1.27; ComponentLink1Description: Manufacturer Link; ComponentLink1URL: http://sg.renesas.com/products/memory/memory_category_landing.jsp; ComponentLink2Description: Datasheet; ComponentLink2URL: http://documentation.renesas.com/eng/products/memory/rej03c0107_r1rw0416d.pdf; ComponentLink3Description: Packaging Specification; ComponentLink3URL: http://sg.renesas.com/media/products/common_info/package/pdf/ic/code/prsj0044da_a.pdf
footprint PRSJ0044DA-A_N (SOJ, 44-Leads, Body 28.6 x 10.16 mm, Pitch 1.27mm, IPC Medium Density)
footprint PRSJ0044DA-A_L (SOJ, 44-Leads, Body 28.6 x 10.16 mm, Pitch 1.27mm, IPC High Density)
footprint PRSJ0044DA-A_M (SOJ, 44-Leads, Body 28.6 x 10.16 mm, Pitch 1.27mm, IPC Low Density)
pins: 1 A0 (in), 2 A1 (in), 3 A2 (in), 4 A3 (in), 5 A4 (in), 6 ~{CS} (in), 7 I/O1 (io), 8 I/O2 (io), 9 I/O3 (io), 10 I/O4 (io), 11 VCC (power), 12 VSS (power), 13 I/O5 (io), 14 I/O6 (io), 15 I/O7 (io), 16 I/O8 (io), 17 ~{WE} (in), 18 A5 (in), 19 A6 (in), 20 A7 (in), 21 A8 (in), 22 A9 (in), 23 A10 (in), 24 A11 (in), 25 A12 (in), 26 A13 (in), 27 A14 (in), 28 NC, 29 I/O9 (io), 30 I/O10 (io), 31 I/O11 (io), 32 I/O12 (io), 33 VCC (power), 34 VSS (power), 35 I/O13 (io), 36 I/O14 (io), 37 I/O15 (io), 38 I/O16 (io), 39 ~{LB} (in), 40 ~{UB} (in), 41 ~{OE} (in), 42 A15 (in), 43 A16 (in), 44 A17 (in)

## R1RW0416DSB-2LR
designator U?
R1RW0416D Series 4M High Speed SRAM (256-kword × 16-bit); Published: 3-Mar-2010; DatasheetVersion: Rev.2.00, Dec-2008; PackageVersion: Sep-2005; PackageReference: PTSB0044GA-A; Publisher: Altium Limited; PackageDescription: 44-Pin Plastic Small Outline Package 0.8 mm Pitch; Code_JEITA: P-TSOP(2)44-10.16x18.41-0.80; ComponentLink1Description: Manufacturer Link; ComponentLink1URL: http://sg.renesas.com/products/memory/memory_category_landing.jsp; ComponentLink2Description: Datasheet; ComponentLink2URL: http://documentation.renesas.com/eng/products/memory/rej03c0107_r1rw0416d.pdf; ComponentLink3Description: Packaging Specification; ComponentLink3URL: http://sg.renesas.com/media/products/common_info/package/pdf/ic/code/ptsb0044ga_a.pdf
footprint PTSB0044GA-A_N (SOP, 44-Leads, Body 18.4x10.16mm, Pitch 0.8mm, IPC Medium Density)
footprint PTSB0044GA-A_L (SOP, 44-Leads, Body 18.4x10.16mm, Pitch 0.8mm, IPC High Density)
footprint PTSB0044GA-A_M (SOP, 44-Leads, Body 18.4x10.16mm, Pitch 0.8mm, IPC Low Density)
pins: 1 A0 (in), 2 A1 (in), 3 A2 (in), 4 A3 (in), 5 A4 (in), 6 ~{CS} (in), 7 I/O1 (io), 8 I/O2 (io), 9 I/O3 (io), 10 I/O4 (io), 11 VCC (power), 12 VSS (power), 13 I/O5 (io), 14 I/O6 (io), 15 I/O7 (io), 16 I/O8 (io), 17 ~{WE} (in), 18 A5 (in), 19 A6 (in), 20 A7 (in), 21 A8 (in), 22 A9 (in), 23 A10 (in), 24 A11 (in), 25 A12 (in), 26 A13 (in), 27 A14 (in), 28 NC, 29 I/O9 (io), 30 I/O10 (io), 31 I/O11 (io), 32 I/O12 (io), 33 VCC (power), 34 VSS (power), 35 I/O13 (io), 36 I/O14 (io), 37 I/O15 (io), 38 I/O16 (io), 39 ~{LB} (in), 40 ~{UB} (in), 41 ~{OE} (in), 42 A15 (in), 43 A16 (in), 44 A17 (in)

## R1RW0416DSB-2PI
designator U?
R1RW0416D Series 4M High Speed SRAM (256-kword × 16-bit); Published: 3-Mar-2010; DatasheetVersion: Rev.2.00, Dec-2008; PackageVersion: Sep-2005; PackageReference: PTSB0044GA-A; Publisher: Altium Limited; PackageDescription: 44-Pin Plastic Small Outline Package 0.8 mm Pitch; Code_JEITA: P-TSOP(2)44-10.16x18.41-0.80; ComponentLink1Description: Manufacturer Link; ComponentLink1URL: http://sg.renesas.com/products/memory/memory_category_landing.jsp; ComponentLink2Description: Datasheet; ComponentLink2URL: http://documentation.renesas.com/eng/products/memory/rej03c0107_r1rw0416d.pdf; ComponentLink3Description: Packaging Specification; ComponentLink3URL: http://sg.renesas.com/media/products/common_info/package/pdf/ic/code/ptsb0044ga_a.pdf
footprint PTSB0044GA-A_N (SOP, 44-Leads, Body 18.4x10.16mm, Pitch 0.8mm, IPC Medium Density)
footprint PTSB0044GA-A_L (SOP, 44-Leads, Body 18.4x10.16mm, Pitch 0.8mm, IPC High Density)
footprint PTSB0044GA-A_M (SOP, 44-Leads, Body 18.4x10.16mm, Pitch 0.8mm, IPC Low Density)
pins: 1 A0 (in), 2 A1 (in), 3 A2 (in), 4 A3 (in), 5 A4 (in), 6 ~{CS} (in), 7 I/O1 (io), 8 I/O2 (io), 9 I/O3 (io), 10 I/O4 (io), 11 VCC (power), 12 VSS (power), 13 I/O5 (io), 14 I/O6 (io), 15 I/O7 (io), 16 I/O8 (io), 17 ~{WE} (in), 18 A5 (in), 19 A6 (in), 20 A7 (in), 21 A8 (in), 22 A9 (in), 23 A10 (in), 24 A11 (in), 25 A12 (in), 26 A13 (in), 27 A14 (in), 28 NC, 29 I/O9 (io), 30 I/O10 (io), 31 I/O11 (io), 32 I/O12 (io), 33 VCC (power), 34 VSS (power), 35 I/O13 (io), 36 I/O14 (io), 37 I/O15 (io), 38 I/O16 (io), 39 ~{LB} (in), 40 ~{UB} (in), 41 ~{OE} (in), 42 A15 (in), 43 A16 (in), 44 A17 (in)

## R1RW0416DSB-2PR
designator U?
R1RW0416D Series 4M High Speed SRAM (256-kword × 16-bit); Published: 3-Mar-2010; DatasheetVersion: Rev.2.00, Dec-2008; PackageVersion: Sep-2005; PackageReference: PTSB0044GA-A; Publisher: Altium Limited; PackageDescription: 44-Pin Plastic Small Outline Package 0.8 mm Pitch; Code_JEITA: P-TSOP(2)44-10.16x18.41-0.80; ComponentLink1Description: Manufacturer Link; ComponentLink1URL: http://sg.renesas.com/products/memory/memory_category_landing.jsp; ComponentLink2Description: Datasheet; ComponentLink2URL: http://documentation.renesas.com/eng/products/memory/rej03c0107_r1rw0416d.pdf; ComponentLink3Description: Packaging Specification; ComponentLink3URL: http://sg.renesas.com/media/products/common_info/package/pdf/ic/code/ptsb0044ga_a.pdf
footprint PTSB0044GA-A_N (SOP, 44-Leads, Body 18.4x10.16mm, Pitch 0.8mm, IPC Medium Density)
footprint PTSB0044GA-A_L (SOP, 44-Leads, Body 18.4x10.16mm, Pitch 0.8mm, IPC High Density)
footprint PTSB0044GA-A_M (SOP, 44-Leads, Body 18.4x10.16mm, Pitch 0.8mm, IPC Low Density)
pins: 1 A0 (in), 2 A1 (in), 3 A2 (in), 4 A3 (in), 5 A4 (in), 6 ~{CS} (in), 7 I/O1 (io), 8 I/O2 (io), 9 I/O3 (io), 10 I/O4 (io), 11 VCC (power), 12 VSS (power), 13 I/O5 (io), 14 I/O6 (io), 15 I/O7 (io), 16 I/O8 (io), 17 ~{WE} (in), 18 A5 (in), 19 A6 (in), 20 A7 (in), 21 A8 (in), 22 A9 (in), 23 A10 (in), 24 A11 (in), 25 A12 (in), 26 A13 (in), 27 A14 (in), 28 NC, 29 I/O9 (io), 30 I/O10 (io), 31 I/O11 (io), 32 I/O12 (io), 33 VCC (power), 34 VSS (power), 35 I/O13 (io), 36 I/O14 (io), 37 I/O15 (io), 38 I/O16 (io), 39 ~{LB} (in), 40 ~{UB} (in), 41 ~{OE} (in), 42 A15 (in), 43 A16 (in), 44 A17 (in)

## R1WV3216RBG-7SI
designator U?
R1WV3216R Series 32Mb Advanced LPSRAM (2M word x 16-bit); Published: 3-Mar-2010; DatasheetVersion: Rev.3.00, Mar-2008; PackageVersion: Sep-2005; PackageReference: PTBG0048HB-A; Publisher: Altium Limited; PackageDescription: 48-Ball Plastic Thin Fine-Pitch BGA, 8.5 x7.5 mm Body, 0.75 mm Pitch; Code_JEITA: P-TFBGA48-7.5x8.5-0.75; ComponentLink1Description: Manufacturer Link; ComponentLink1URL: http://sg.renesas.com/products/memory/memory_category_landing.jsp; ComponentLink2Description: Datasheet; ComponentLink2URL: http://documentation.renesas.com/eng/products/memory/rej03c0215_r1wv3216r.pdf; ComponentLink3Description: Packaging Specification; ComponentLink3URL: http://sg.renesas.com/media/products/common_info/package/pdf/ic/code/ptbg0048hb_a.pdf
footprint PTBG0048HB-A (BGA, 48-Leads, Body 8.5x7.5mm, Pitch 0.75mm)
pins: A1 ~{LB} (in), A2 ~{OE} (in), A3 A0 (in), A4 A1 (in), A5 A2 (in), A6 CS2 (in), B1 DQ15 (io), B2 ~{UB} (in), B3 A3 (in), B4 A4 (in), B5 ~{CS}1 (in), B6 DQ0 (io), C1 DQ13 (io), C2 DQ14 (io), C3 A5 (in), C4 A6 (in), C5 DQ1 (io), C6 DQ2 (io), D1 VSS (power), D2 DQ12 (io), D3 A17 (in), D4 A7 (in), D5 DQ3 (io), D6 VCC (power), E1 VCC (power), E2 DQ11 (io), E3 VSS/NC, E4 A16 (in), E5 DQ4 (io), E6 VSS (power), F1 DQ10 (io), F2 DQ9 (io), F3 A14 (in), F4 A15 (in), F5 DQ6 (io), F6 DQ5 (io), G1 DQ8 (io), G2 A19 (in), G3 A12 (in), G4 A13 (in), G5 ~{WE} (in), G6 DQ7 (io), H1 A18 (in), H2 A8 (in), H3 A9 (in), H4 A10 (in), H5 A11 (in), H6 A20 (in)

## R1WV3216RBG-7SR
designator U?
R1WV3216R Series 32Mb Advanced LPSRAM (2M word x 16-bit); Published: 3-Mar-2010; DatasheetVersion: Rev.3.00, Mar-2008; PackageVersion: Sep-2005; PackageReference: PTBG0048HB-A; Publisher: Altium Limited; PackageDescription: 48-Ball Plastic Thin Fine-Pitch BGA, 8.5 x7.5 mm Body, 0.75 mm Pitch; Code_JEITA: P-TFBGA48-7.5x8.5-0.75; ComponentLink1Description: Manufacturer Link; ComponentLink1URL: http://sg.renesas.com/products/memory/memory_category_landing.jsp; ComponentLink2Description: Datasheet; ComponentLink2URL: http://documentation.renesas.com/eng/products/memory/rej03c0215_r1wv3216r.pdf; ComponentLink3Description: Packaging Specification; ComponentLink3URL: http://sg.renesas.com/media/products/common_info/package/pdf/ic/code/ptbg0048hb_a.pdf
footprint PTBG0048HB-A (BGA, 48-Leads, Body 8.5x7.5mm, Pitch 0.75mm)
pins: A1 ~{LB} (in), A2 ~{OE} (in), A3 A0 (in), A4 A1 (in), A5 A2 (in), A6 CS2 (in), B1 DQ15 (io), B2 ~{UB} (in), B3 A3 (in), B4 A4 (in), B5 ~{CS}1 (in), B6 DQ0 (io), C1 DQ13 (io), C2 DQ14 (io), C3 A5 (in), C4 A6 (in), C5 DQ1 (io), C6 DQ2 (io), D1 VSS (power), D2 DQ12 (io), D3 A17 (in), D4 A7 (in), D5 DQ3 (io), D6 VCC (power), E1 VCC (power), E2 DQ11 (io), E3 VSS/NC, E4 A16 (in), E5 DQ4 (io), E6 VSS (power), F1 DQ10 (io), F2 DQ9 (io), F3 A14 (in), F4 A15 (in), F5 DQ6 (io), F6 DQ5 (io), G1 DQ8 (io), G2 A19 (in), G3 A12 (in), G4 A13 (in), G5 ~{WE} (in), G6 DQ7 (io), H1 A18 (in), H2 A8 (in), H3 A9 (in), H4 A10 (in), H5 A11 (in), H6 A20 (in)

## R1WV3216RBG-8SI
designator U?
R1WV3216R Series 32Mb Advanced LPSRAM (2M word x 16-bit); Published: 3-Mar-2010; DatasheetVersion: Rev.3.00, Mar-2008; PackageVersion: Sep-2005; PackageReference: PTBG0048HB-A; Publisher: Altium Limited; PackageDescription: 48-Ball Plastic Thin Fine-Pitch BGA, 8.5 x7.5 mm Body, 0.75 mm Pitch; Code_JEITA: P-TFBGA48-7.5x8.5-0.75; ComponentLink1Description: Manufacturer Link; ComponentLink1URL: http://sg.renesas.com/products/memory/memory_category_landing.jsp; ComponentLink2Description: Datasheet; ComponentLink2URL: http://documentation.renesas.com/eng/products/memory/rej03c0215_r1wv3216r.pdf; ComponentLink3Description: Packaging Specification; ComponentLink3URL: http://sg.renesas.com/media/products/common_info/package/pdf/ic/code/ptbg0048hb_a.pdf
footprint PTBG0048HB-A (BGA, 48-Leads, Body 8.5x7.5mm, Pitch 0.75mm)
pins: A1 ~{LB} (in), A2 ~{OE} (in), A3 A0 (in), A4 A1 (in), A5 A2 (in), A6 CS2 (in), B1 DQ15 (io), B2 ~{UB} (in), B3 A3 (in), B4 A4 (in), B5 ~{CS}1 (in), B6 DQ0 (io), C1 DQ13 (io), C2 DQ14 (io), C3 A5 (in), C4 A6 (in), C5 DQ1 (io), C6 DQ2 (io), D1 VSS (power), D2 DQ12 (io), D3 A17 (in), D4 A7 (in), D5 DQ3 (io), D6 VCC (power), E1 VCC (power), E2 DQ11 (io), E3 VSS/NC, E4 A16 (in), E5 DQ4 (io), E6 VSS (power), F1 DQ10 (io), F2 DQ9 (io), F3 A14 (in), F4 A15 (in), F5 DQ6 (io), F6 DQ5 (io), G1 DQ8 (io), G2 A19 (in), G3 A12 (in), G4 A13 (in), G5 ~{WE} (in), G6 DQ7 (io), H1 A18 (in), H2 A8 (in), H3 A9 (in), H4 A10 (in), H5 A11 (in), H6 A20 (in)

## R1WV3216RBG-8SR
designator U?
R1WV3216R Series 32Mb Advanced LPSRAM (2M word x 16-bit); Published: 3-Mar-2010; DatasheetVersion: Rev.3.00, Mar-2008; PackageVersion: Sep-2005; PackageReference: PTBG0048HB-A; Publisher: Altium Limited; PackageDescription: 48-Ball Plastic Thin Fine-Pitch BGA, 8.5 x7.5 mm Body, 0.75 mm Pitch; Code_JEITA: P-TFBGA48-7.5x8.5-0.75; ComponentLink1Description: Manufacturer Link; ComponentLink1URL: http://sg.renesas.com/products/memory/memory_category_landing.jsp; ComponentLink2Description: Datasheet; ComponentLink2URL: http://documentation.renesas.com/eng/products/memory/rej03c0215_r1wv3216r.pdf; ComponentLink3Description: Packaging Specification; ComponentLink3URL: http://sg.renesas.com/media/products/common_info/package/pdf/ic/code/ptbg0048hb_a.pdf
footprint PTBG0048HB-A (BGA, 48-Leads, Body 8.5x7.5mm, Pitch 0.75mm)
pins: A1 ~{LB} (in), A2 ~{OE} (in), A3 A0 (in), A4 A1 (in), A5 A2 (in), A6 CS2 (in), B1 DQ15 (io), B2 ~{UB} (in), B3 A3 (in), B4 A4 (in), B5 ~{CS}1 (in), B6 DQ0 (io), C1 DQ13 (io), C2 DQ14 (io), C3 A5 (in), C4 A6 (in), C5 DQ1 (io), C6 DQ2 (io), D1 VSS (power), D2 DQ12 (io), D3 A17 (in), D4 A7 (in), D5 DQ3 (io), D6 VCC (power), E1 VCC (power), E2 DQ11 (io), E3 VSS/NC, E4 A16 (in), E5 DQ4 (io), E6 VSS (power), F1 DQ10 (io), F2 DQ9 (io), F3 A14 (in), F4 A15 (in), F5 DQ6 (io), F6 DQ5 (io), G1 DQ8 (io), G2 A19 (in), G3 A12 (in), G4 A13 (in), G5 ~{WE} (in), G6 DQ7 (io), H1 A18 (in), H2 A8 (in), H3 A9 (in), H4 A10 (in), H5 A11 (in), H6 A20 (in)

## R1WV3216RSD-7SI
designator U?
R1WV3216R Series 32Mb Advanced LPSRAM (2M word x 16-bit); Published: 3-Mar-2010; DatasheetVersion: Rev.3.00, Mar-2008; PackageVersion: Sep-2005; PackageReference: PTSB0052LB-A; Publisher: Altium Limited; PackageDescription: 52-Pin Thin Shrink Small Outline Package 0.4 mm Pitch; Code_JEITA: P-TSOP(2)52-8.89x10.79-0.40; ComponentLink1Description: Manufacturer Link; ComponentLink1URL: http://sg.renesas.com/products/memory/memory_category_landing.jsp; ComponentLink2Description: Datasheet; ComponentLink2URL: http://documentation.renesas.com/eng/products/memory/rej03c0215_r1wv3216r.pdf; ComponentLink3Description: Packaging Specification; ComponentLink3URL: http://sg.renesas.com/media/products/common_info/package/pdf/ic/code/ptsb0052lb_a.pdf
footprint PTSB0052LB-A_N (TSSOP, 52-Leads, Body 10.8x8.9mm, Pitch 0.4mm, IPC Medium Density)
footprint PTSB0052LB-A_L (TSSOP, 52-Leads, Body 10.8x8.9mm, Pitch 0.4mm, IPC High Density)
footprint PTSB0052LB-A_M (TSSOP, 52-Leads, Body 10.8x8.9mm, Pitch 0.4mm, IPC Low Density)
pins: 1 A15 (in), 2 A14 (in), 3 A13 (in), 4 A12 (in), 5 A11 (in), 6 A10 (in), 7 A9 (in), 8 A8 (in), 9 A19 (in), 10 ~{CS}1 (in), 11 ~{WE} (in), 12 NC, 13 NC, 14 VCC (power), 15 CS2 (in), 16 NC, 17 A20 (in), 18 A18 (in), 19 A17 (in), 20 A7 (in), 21 A6 (in), 22 A5 (in), 23 A4 (in), 24 A3 (in), 25 A2 (in), 26 A1 (in), 27 A0 (in), 28 NC, 29 VSS (power), 30 ~{OE} (in), 31 DQ0 (io), 32 DQ8 (io), 33 DQ1 (io), 34 DQ9 (io), 35 DQ2 (io), 36 DQ10 (io), 37 DQ3 (io), 38 DQ11 (io), 39 NC, 40 DQ4 (io), 41 DQ12 (io), 42 DQ5 (io), 43 DQ13 (io), 44 DQ6 (io), 45 DQ14 (io), 46 DQ7 (io), 47 DQ15/A-1 (io), 48 ~{LB} (in), 49 VSS (power), 50 ~{UB} (in), 51 ~{BYTE} (in), 52 A16 (in)

## R1WV3216RSD-7SR
designator U?
R1WV3216R Series 32Mb Advanced LPSRAM (2M word x 16-bit); Published: 3-Mar-2010; DatasheetVersion: Rev.3.00, Mar-2008; PackageVersion: Sep-2005; PackageReference: PTSB0052LB-A; Publisher: Altium Limited; PackageDescription: 52-Pin Thin Shrink Small Outline Package 0.4 mm Pitch; Code_JEITA: P-TSOP(2)52-8.89x10.79-0.40; ComponentLink1Description: Manufacturer Link; ComponentLink1URL: http://sg.renesas.com/products/memory/memory_category_landing.jsp; ComponentLink2Description: Datasheet; ComponentLink2URL: http://documentation.renesas.com/eng/products/memory/rej03c0215_r1wv3216r.pdf; ComponentLink3Description: Packaging Specification; ComponentLink3URL: http://sg.renesas.com/media/products/common_info/package/pdf/ic/code/ptsb0052lb_a.pdf
footprint PTSB0052LB-A_N (TSSOP, 52-Leads, Body 10.8x8.9mm, Pitch 0.4mm, IPC Medium Density)
footprint PTSB0052LB-A_L (TSSOP, 52-Leads, Body 10.8x8.9mm, Pitch 0.4mm, IPC High Density)
footprint PTSB0052LB-A_M (TSSOP, 52-Leads, Body 10.8x8.9mm, Pitch 0.4mm, IPC Low Density)
pins: 1 A15 (in), 2 A14 (in), 3 A13 (in), 4 A12 (in), 5 A11 (in), 6 A10 (in), 7 A9 (in), 8 A8 (in), 9 A19 (in), 10 ~{CS}1 (in), 11 ~{WE} (in), 12 NC, 13 NC, 14 VCC (power), 15 CS2 (in), 16 NC, 17 A20 (in), 18 A18 (in), 19 A17 (in), 20 A7 (in), 21 A6 (in), 22 A5 (in), 23 A4 (in), 24 A3 (in), 25 A2 (in), 26 A1 (in), 27 A0 (in), 28 NC, 29 VSS (power), 30 ~{OE} (in), 31 DQ0 (io), 32 DQ8 (io), 33 DQ1 (io), 34 DQ9 (io), 35 DQ2 (io), 36 DQ10 (io), 37 DQ3 (io), 38 DQ11 (io), 39 NC, 40 DQ4 (io), 41 DQ12 (io), 42 DQ5 (io), 43 DQ13 (io), 44 DQ6 (io), 45 DQ14 (io), 46 DQ7 (io), 47 DQ15/A-1 (io), 48 ~{LB} (in), 49 VSS (power), 50 ~{UB} (in), 51 ~{BYTE} (in), 52 A16 (in)

## R1WV3216RSD-8SI
designator U?
R1WV3216R Series 32Mb Advanced LPSRAM (2M word x 16-bit); Published: 3-Mar-2010; DatasheetVersion: Rev.3.00, Mar-2008; PackageVersion: Sep-2005; PackageReference: PTSB0052LB-A; Publisher: Altium Limited; PackageDescription: 52-Pin Thin Shrink Small Outline Package 0.4 mm Pitch; Code_JEITA: P-TSOP(2)52-8.89x10.79-0.40; ComponentLink1Description: Manufacturer Link; ComponentLink1URL: http://sg.renesas.com/products/memory/memory_category_landing.jsp; ComponentLink2Description: Datasheet; ComponentLink2URL: http://documentation.renesas.com/eng/products/memory/rej03c0215_r1wv3216r.pdf; ComponentLink3Description: Packaging Specification; ComponentLink3URL: http://sg.renesas.com/media/products/common_info/package/pdf/ic/code/ptsb0052lb_a.pdf
footprint PTSB0052LB-A_N (TSSOP, 52-Leads, Body 10.8x8.9mm, Pitch 0.4mm, IPC Medium Density)
footprint PTSB0052LB-A_L (TSSOP, 52-Leads, Body 10.8x8.9mm, Pitch 0.4mm, IPC High Density)
footprint PTSB0052LB-A_M (TSSOP, 52-Leads, Body 10.8x8.9mm, Pitch 0.4mm, IPC Low Density)
pins: 1 A15 (in), 2 A14 (in), 3 A13 (in), 4 A12 (in), 5 A11 (in), 6 A10 (in), 7 A9 (in), 8 A8 (in), 9 A19 (in), 10 ~{CS}1 (in), 11 ~{WE} (in), 12 NC, 13 NC, 14 VCC (power), 15 CS2 (in), 16 NC, 17 A20 (in), 18 A18 (in), 19 A17 (in), 20 A7 (in), 21 A6 (in), 22 A5 (in), 23 A4 (in), 24 A3 (in), 25 A2 (in), 26 A1 (in), 27 A0 (in), 28 NC, 29 VSS (power), 30 ~{OE} (in), 31 DQ0 (io), 32 DQ8 (io), 33 DQ1 (io), 34 DQ9 (io), 35 DQ2 (io), 36 DQ10 (io), 37 DQ3 (io), 38 DQ11 (io), 39 NC, 40 DQ4 (io), 41 DQ12 (io), 42 DQ5 (io), 43 DQ13 (io), 44 DQ6 (io), 45 DQ14 (io), 46 DQ7 (io), 47 DQ15/A-1 (io), 48 ~{LB} (in), 49 VSS (power), 50 ~{UB} (in), 51 ~{BYTE} (in), 52 A16 (in)

## R1WV3216RSD-8SR
designator U?
R1WV3216R Series 32Mb Advanced LPSRAM (2M word x 16-bit); Published: 3-Mar-2010; DatasheetVersion: Rev.3.00, Mar-2008; PackageVersion: Sep-2005; PackageReference: PTSB0052LB-A; Publisher: Altium Limited; PackageDescription: 52-Pin Thin Shrink Small Outline Package 0.4 mm Pitch; Code_JEITA: P-TSOP(2)52-8.89x10.79-0.40; ComponentLink1Description: Manufacturer Link; ComponentLink1URL: http://sg.renesas.com/products/memory/memory_category_landing.jsp; ComponentLink2Description: Datasheet; ComponentLink2URL: http://documentation.renesas.com/eng/products/memory/rej03c0215_r1wv3216r.pdf; ComponentLink3Description: Packaging Specification; ComponentLink3URL: http://sg.renesas.com/media/products/common_info/package/pdf/ic/code/ptsb0052lb_a.pdf
footprint PTSB0052LB-A_N (TSSOP, 52-Leads, Body 10.8x8.9mm, Pitch 0.4mm, IPC Medium Density)
footprint PTSB0052LB-A_L (TSSOP, 52-Leads, Body 10.8x8.9mm, Pitch 0.4mm, IPC High Density)
footprint PTSB0052LB-A_M (TSSOP, 52-Leads, Body 10.8x8.9mm, Pitch 0.4mm, IPC Low Density)
pins: 1 A15 (in), 2 A14 (in), 3 A13 (in), 4 A12 (in), 5 A11 (in), 6 A10 (in), 7 A9 (in), 8 A8 (in), 9 A19 (in), 10 ~{CS}1 (in), 11 ~{WE} (in), 12 NC, 13 NC, 14 VCC (power), 15 CS2 (in), 16 NC, 17 A20 (in), 18 A18 (in), 19 A17 (in), 20 A7 (in), 21 A6 (in), 22 A5 (in), 23 A4 (in), 24 A3 (in), 25 A2 (in), 26 A1 (in), 27 A0 (in), 28 NC, 29 VSS (power), 30 ~{OE} (in), 31 DQ0 (io), 32 DQ8 (io), 33 DQ1 (io), 34 DQ9 (io), 35 DQ2 (io), 36 DQ10 (io), 37 DQ3 (io), 38 DQ11 (io), 39 NC, 40 DQ4 (io), 41 DQ12 (io), 42 DQ5 (io), 43 DQ13 (io), 44 DQ6 (io), 45 DQ14 (io), 46 DQ7 (io), 47 DQ15/A-1 (io), 48 ~{LB} (in), 49 VSS (power), 50 ~{UB} (in), 51 ~{BYTE} (in), 52 A16 (in)

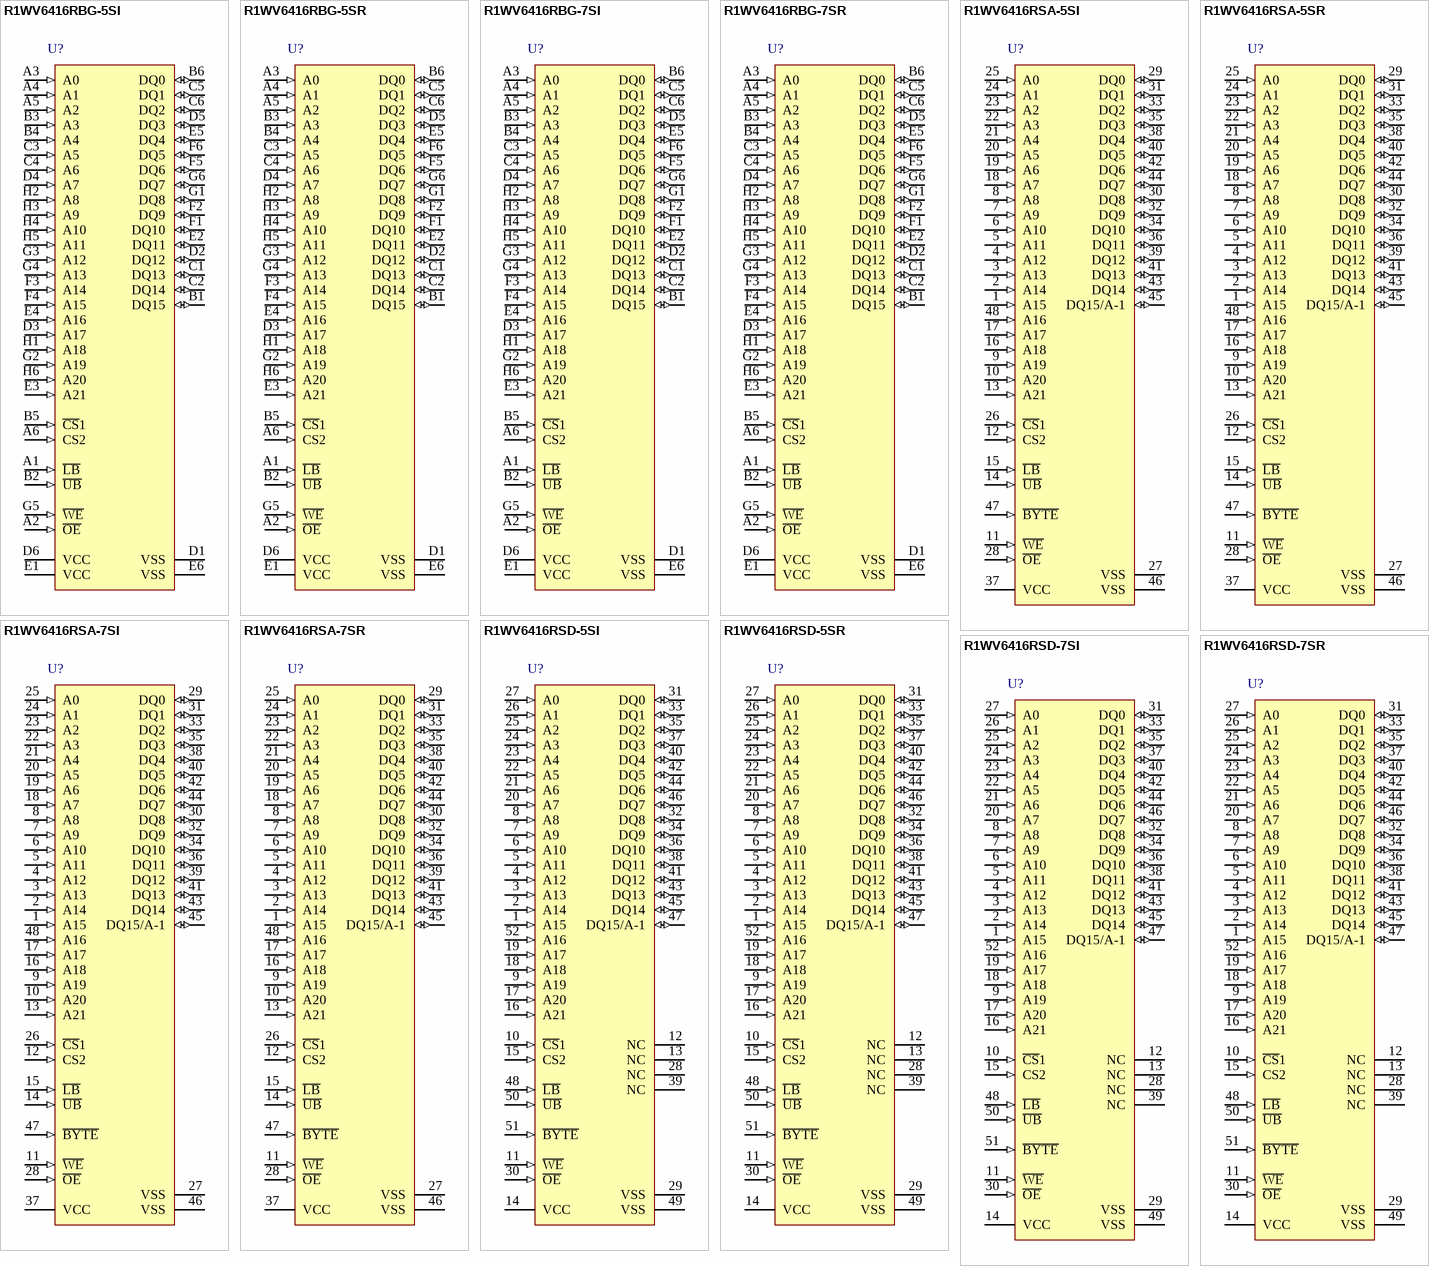
[diagram p15: symbols R1WV6416RBG-5SI to R1WV6416RSD-7SR]

## R1WV6416RBG-5SI
designator U?
R1WV6416R Series 64Mb Advanced LPSRAM (4M word x 16bit / 8M word x 8bit); Published: 3-Mar-2010; DatasheetVersion: Rev.1.00, May-2009; PackageVersion: Jul-2009; PackageReference: PTBG0048HG-A; Publisher: Altium Limited; PackageDescription: 48-Ball Plastic Thin Fine-Pitch BGA, 11 x 8.5 mm Body, 0.75 mm Pitch; Code_JEITA: P-TFBGA48-8.5x11-0.75; ComponentLink1Description: Manufacturer Link; ComponentLink1URL: http://sg.renesas.com/products/memory/memory_category_landing.jsp; ComponentLink2Description: Datasheet; ComponentLink2URL: http://documentation.renesas.com/eng/products/memory/rej03c0368_r1wv6416rds.pdf; ComponentLink3Description: Packaging Specification; ComponentLink3URL: http://sg.renesas.com/media/products/common_info/package/pdf/ic/code/ptbg0048hg_a.pdf
footprint PTBG0048HG-A (BGA, 48-Leads, Body 11x8.5mm, Pitch 0.75mm)
pins: A1 ~{LB} (in), A2 ~{OE} (in), A3 A0 (in), A4 A1 (in), A5 A2 (in), A6 CS2 (in), B1 DQ15 (io), B2 ~{UB} (in), B3 A3 (in), B4 A4 (in), B5 ~{CS}1 (in), B6 DQ0 (io), C1 DQ13 (io), C2 DQ14 (io), C3 A5 (in), C4 A6 (in), C5 DQ1 (io), C6 DQ2 (io), D1 VSS (power), D2 DQ12 (io), D3 A17 (in), D4 A7 (in), D5 DQ3 (io), D6 VCC (power), E1 VCC (power), E2 DQ11 (io), E3 A21 (in), E4 A16 (in), E5 DQ4 (io), E6 VSS (power), F1 DQ10 (io), F2 DQ9 (io), F3 A14 (in), F4 A15 (in), F5 DQ6 (io), F6 DQ5 (io), G1 DQ8 (io), G2 A19 (in), G3 A12 (in), G4 A13 (in), G5 ~{WE} (in), G6 DQ7 (io), H1 A18 (in), H2 A8 (in), H3 A9 (in), H4 A10 (in), H5 A11 (in), H6 A20 (in)

## R1WV6416RBG-5SR
designator U?
R1WV6416R Series 64Mb Advanced LPSRAM (4M word x 16bit / 8M word x 8bit); Published: 3-Mar-2010; DatasheetVersion: Rev.1.00, May-2009; PackageVersion: Jul-2009; PackageReference: PTBG0048HG-A; Publisher: Altium Limited; PackageDescription: 48-Ball Plastic Thin Fine-Pitch BGA, 11 x 8.5 mm Body, 0.75 mm Pitch; Code_JEITA: P-TFBGA48-8.5x11-0.75; ComponentLink1Description: Manufacturer Link; ComponentLink1URL: http://sg.renesas.com/products/memory/memory_category_landing.jsp; ComponentLink2Description: Datasheet; ComponentLink2URL: http://documentation.renesas.com/eng/products/memory/rej03c0368_r1wv6416rds.pdf; ComponentLink3Description: Packaging Specification; ComponentLink3URL: http://sg.renesas.com/media/products/common_info/package/pdf/ic/code/ptbg0048hg_a.pdf
footprint PTBG0048HG-A (BGA, 48-Leads, Body 11x8.5mm, Pitch 0.75mm)
pins: A1 ~{LB} (in), A2 ~{OE} (in), A3 A0 (in), A4 A1 (in), A5 A2 (in), A6 CS2 (in), B1 DQ15 (io), B2 ~{UB} (in), B3 A3 (in), B4 A4 (in), B5 ~{CS}1 (in), B6 DQ0 (io), C1 DQ13 (io), C2 DQ14 (io), C3 A5 (in), C4 A6 (in), C5 DQ1 (io), C6 DQ2 (io), D1 VSS (power), D2 DQ12 (io), D3 A17 (in), D4 A7 (in), D5 DQ3 (io), D6 VCC (power), E1 VCC (power), E2 DQ11 (io), E3 A21 (in), E4 A16 (in), E5 DQ4 (io), E6 VSS (power), F1 DQ10 (io), F2 DQ9 (io), F3 A14 (in), F4 A15 (in), F5 DQ6 (io), F6 DQ5 (io), G1 DQ8 (io), G2 A19 (in), G3 A12 (in), G4 A13 (in), G5 ~{WE} (in), G6 DQ7 (io), H1 A18 (in), H2 A8 (in), H3 A9 (in), H4 A10 (in), H5 A11 (in), H6 A20 (in)